# Altium footprint library MyLib.PCBLIB: 64 footprints (part 3 of 4)
Each footprint in its own frame and in the unit in brackets; x right, y up, seen from the top. Pads: shape width x height; smd on the part's side, far side on the other; paste and mask are expansions set on the pad; w line width, h text height; cw(c..) or ccw(c..) is an arc to the next point about the centre after c.
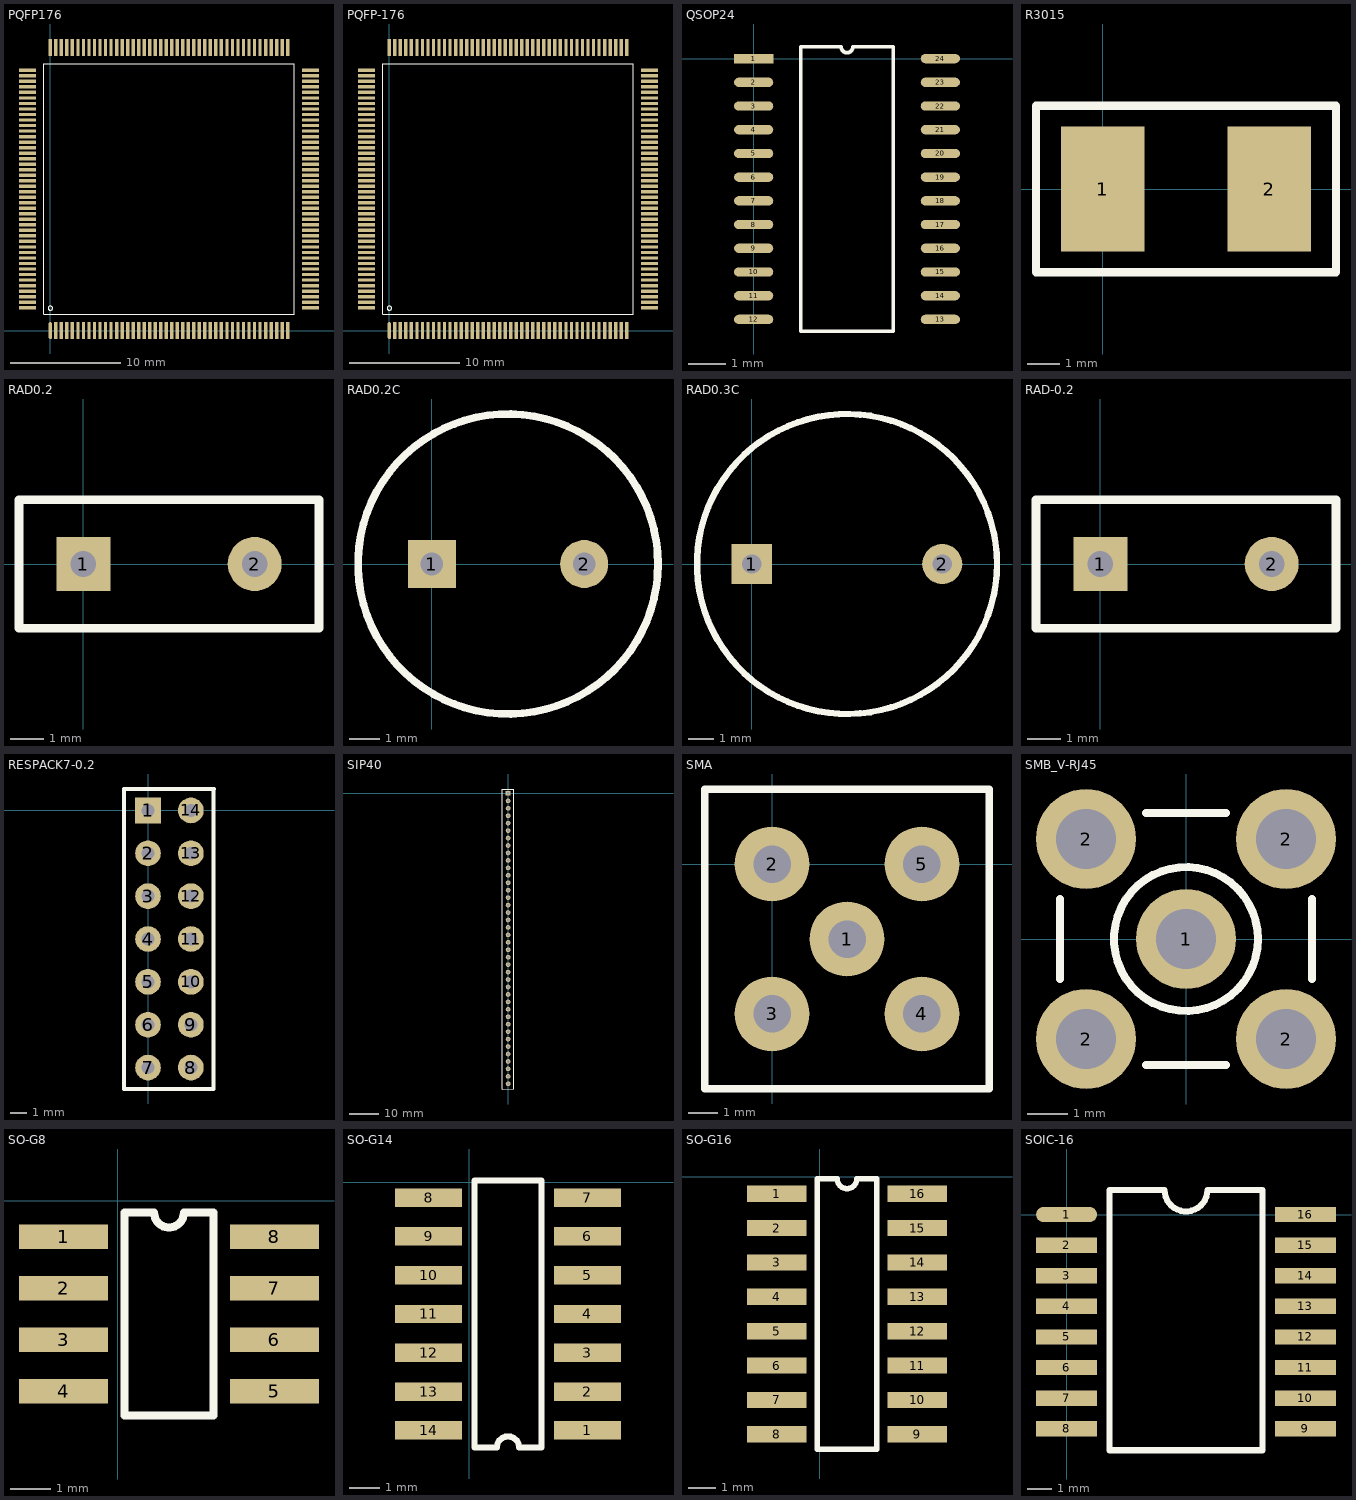
[diagram p2: the footprints below, top view; thin cyan lines are the x and y axes]

## PQFP176 [mil]
pads (176):
  oval 12x60 smd: 1(0,0)
  rect 12x60 smd: 2(19.68,0) 3(39.37,0) 4(59.05,0) 5(78.74,0) 6(98.42,0) 7(118.11,0) 8(137.79,0) 9(157.48,0) 10(177.16,0) 11(196.85,0) 12(216.53,0) 13(236.22,0) 14(255.91,0) 15(275.59,0) 16(295.27,0) 17(314.96,0) 18(334.64,0) 19(354.33,0) 20(374.01,0) 21(393.7,0) 22(413.38,0) 23(433.07,0) 24(452.75,0) 25(472.44,0) 26(492.12,0) 27(511.81,0) 28(531.5,0) 29(551.18,0) 30(570.87,0) 31(590.55,0) 32(610.24,0) 33(629.92,0) 34(649.61,0) 35(669.29,0) 36(688.98,0) 37(708.66,0) 38(728.35,0) 39(748.03,0) 40(767.72,0) 41(787.4,0) 42(807.09,0) 43(826.77,0) 44(846.46,0) 89(846.46,1010) 90(826.77,1010) 91(807.09,1010) 92(787.4,1010) 93(767.72,1010) 94(748.03,1010) 95(728.35,1010) 96(708.66,1010) 97(688.98,1010) 98(669.29,1010) 99(649.61,1010) 100(629.92,1010) 101(610.24,1010) 102(590.55,1010) 103(570.87,1010) 104(551.18,1010) 105(531.5,1010) 106(511.81,1010) 107(492.13,1010) 108(472.44,1010) 109(452.76,1010) 110(433.07,1010) 111(413.39,1010) 112(393.7,1010) 113(374.02,1010) 114(354.33,1010) 115(334.65,1010) 116(314.96,1010) 117(295.28,1010) 118(275.59,1010) 119(255.91,1010) 120(236.22,1010) 121(216.54,1010) 122(196.85,1010) 123(177.17,1010) 124(157.48,1010) 125(137.8,1010) 126(118.11,1010) 127(98.43,1010) 128(78.74,1010) 129(59.06,1010) 130(39.37,1010) 131(19.68,1010) 132(0,1010)
  rect 60x12 smd: 45(928.23,81.77) 46(928.23,101.46) 47(928.23,121.14) 48(928.23,140.83) 49(928.23,160.51) 50(928.23,180.2) 51(928.23,199.88) 52(928.23,219.57) 53(928.23,239.25) 54(928.23,258.94) 55(928.23,278.62) 56(928.23,298.31) 57(928.23,317.99) 58(928.23,337.68) 59(928.23,357.36) 60(928.23,377.05) 61(928.23,396.73) 62(928.23,416.42) 63(928.23,436.1) 64(928.23,455.79) 65(928.23,475.47) 66(928.23,495.16) 67(928.23,514.84) 68(928.23,534.53) 69(928.23,554.21) 70(928.23,573.9) 71(928.23,593.58) 72(928.23,613.27) 73(928.23,632.95) 74(928.23,652.64) 75(928.23,672.32) 76(928.23,692.01) 77(928.23,711.69) 78(928.23,731.38) 79(928.23,751.06) 80(928.23,770.75) 81(928.23,790.43) 82(928.23,810.12) 83(928.23,829.8) 84(928.23,849.49) 85(928.23,869.17) 86(928.23,888.86) 87(928.23,908.54) 88(928.23,928.23) 133(-81.77,928.23) 134(-81.77,908.54) 135(-81.77,888.86) 136(-81.77,869.17) 137(-81.77,849.49) 138(-81.77,829.8) 139(-81.77,810.12) 140(-81.77,790.43) 141(-81.77,770.75) 142(-81.77,751.06) 143(-81.77,731.38) 144(-81.77,711.69) 145(-81.77,692.01) 146(-81.77,672.32) 147(-81.77,652.64) 148(-81.77,632.95) 149(-81.77,613.27) 150(-81.77,593.58) 151(-81.77,573.9) 152(-81.77,554.21) 153(-81.77,534.53) 154(-81.77,514.84) 155(-81.77,495.16) 156(-81.77,475.47) 157(-81.77,455.79) 158(-81.77,436.1) 159(-81.77,416.42) 160(-81.77,396.73) 161(-81.77,377.05) 162(-81.77,357.36) 163(-81.77,337.68) 164(-81.77,317.99) 165(-81.77,298.31) 166(-81.77,278.62) 167(-81.77,258.94) 168(-81.77,239.25) 169(-81.77,219.57) 170(-81.77,199.88) 171(-81.77,180.2) 172(-81.77,160.51) 173(-81.77,140.83) 174(-81.77,121.14) 175(-81.77,101.46) 176(-81.77,81.77)
Top Overlay:
  circle w1.97: c0,80 r7.87
  lines w3.94: -22.72,59.06 869.17,59.06 869.17,950.94 -22.72,950.94 -22.72,59.06

## PQFP-176 [mil]
pads (176):
  oval 12x60 smd: 1(0,0)
  rect 12x60 smd: 2(19.68,0) 3(39.37,0) 4(59.05,0) 5(78.74,0) 6(98.42,0) 7(118.11,0) 8(137.79,0) 9(157.48,0) 10(177.16,0) 11(196.85,0) 12(216.53,0) 13(236.22,0) 14(255.91,0) 15(275.59,0) 16(295.27,0) 17(314.96,0) 18(334.64,0) 19(354.33,0) 20(374.01,0) 21(393.7,0) 22(413.38,0) 23(433.07,0) 24(452.75,0) 25(472.44,0) 26(492.12,0) 27(511.81,0) 28(531.5,0) 29(551.18,0) 30(570.87,0) 31(590.55,0) 32(610.24,0) 33(629.92,0) 34(649.61,0) 35(669.29,0) 36(688.98,0) 37(708.66,0) 38(728.35,0) 39(748.03,0) 40(767.72,0) 41(787.4,0) 42(807.09,0) 43(826.77,0) 44(846.46,0) 89(846.46,1010) 90(826.77,1010) 91(807.09,1010) 92(787.4,1010) 93(767.72,1010) 94(748.03,1010) 95(728.35,1010) 96(708.66,1010) 97(688.98,1010) 98(669.29,1010) 99(649.61,1010) 100(629.92,1010) 101(610.24,1010) 102(590.55,1010) 103(570.87,1010) 104(551.18,1010) 105(531.5,1010) 106(511.81,1010) 107(492.13,1010) 108(472.44,1010) 109(452.76,1010) 110(433.07,1010) 111(413.39,1010) 112(393.7,1010) 113(374.02,1010) 114(354.33,1010) 115(334.65,1010) 116(314.96,1010) 117(295.28,1010) 118(275.59,1010) 119(255.91,1010) 120(236.22,1010) 121(216.54,1010) 122(196.85,1010) 123(177.17,1010) 124(157.48,1010) 125(137.8,1010) 126(118.11,1010) 127(98.43,1010) 128(78.74,1010) 129(59.06,1010) 130(39.37,1010) 131(19.68,1010) 132(0,1010)
  rect 60x12 smd: 45(928.23,81.77) 46(928.23,101.46) 47(928.23,121.14) 48(928.23,140.83) 49(928.23,160.51) 50(928.23,180.2) 51(928.23,199.88) 52(928.23,219.57) 53(928.23,239.25) 54(928.23,258.94) 55(928.23,278.62) 56(928.23,298.31) 57(928.23,317.99) 58(928.23,337.68) 59(928.23,357.36) 60(928.23,377.05) 61(928.23,396.73) 62(928.23,416.42) 63(928.23,436.1) 64(928.23,455.79) 65(928.23,475.47) 66(928.23,495.16) 67(928.23,514.84) 68(928.23,534.53) 69(928.23,554.21) 70(928.23,573.9) 71(928.23,593.58) 72(928.23,613.27) 73(928.23,632.95) 74(928.23,652.64) 75(928.23,672.32) 76(928.23,692.01) 77(928.23,711.69) 78(928.23,731.38) 79(928.23,751.06) 80(928.23,770.75) 81(928.23,790.43) 82(928.23,810.12) 83(928.23,829.8) 84(928.23,849.49) 85(928.23,869.17) 86(928.23,888.86) 87(928.23,908.54) 88(928.23,928.23) 133(-81.77,928.23) 134(-81.77,908.54) 135(-81.77,888.86) 136(-81.77,869.17) 137(-81.77,849.49) 138(-81.77,829.8) 139(-81.77,810.12) 140(-81.77,790.43) 141(-81.77,770.75) 142(-81.77,751.06) 143(-81.77,731.38) 144(-81.77,711.69) 145(-81.77,692.01) 146(-81.77,672.32) 147(-81.77,652.64) 148(-81.77,632.95) 149(-81.77,613.27) 150(-81.77,593.58) 151(-81.77,573.9) 152(-81.77,554.21) 153(-81.77,534.53) 154(-81.77,514.84) 155(-81.77,495.16) 156(-81.77,475.47) 157(-81.77,455.79) 158(-81.77,436.1) 159(-81.77,416.42) 160(-81.77,396.73) 161(-81.77,377.05) 162(-81.77,357.36) 163(-81.77,337.68) 164(-81.77,317.99) 165(-81.77,298.31) 166(-81.77,278.62) 167(-81.77,258.94) 168(-81.77,239.25) 169(-81.77,219.57) 170(-81.77,199.88) 171(-81.77,180.2) 172(-81.77,160.51) 173(-81.77,140.83) 174(-81.77,121.14) 175(-81.77,101.46) 176(-81.77,81.77)
Top Overlay:
  circle w1.97: c0,80 r7.87
  lines w3.94: -22.72,59.06 869.17,59.06 869.17,950.94 -22.72,950.94 -22.72,59.06

## QSOP24 [mm]
pads (24):
  rect 1.05x0.25 smd: 1(0,0)
  oval 1.05x0.25 smd: 2(0,-0.635) 3(0,-1.27) 4(0,-1.905) 5(0,-2.54) 6(0,-3.175) 7(0,-3.81) 8(0,-4.445) 9(0,-5.08) 10(0,-5.715) 11(0,-6.35) 12(0,-6.985) 13(5,-6.985) 14(5,-6.35) 15(5,-5.715) 16(5,-5.08) 17(5,-4.445) 18(5,-3.81) 19(5,-3.175) 20(5,-2.54) 21(5,-1.905) 22(5,-1.27) 23(5,-0.635) 24(5,0)
Top Overlay:
  lines w0.1: 1.26,-7.302 1.26,0.318 2.341,0.318 ccw(c2.5,0.318) 2.659,0.317 3.74,0.318 3.74,-7.302 1.26,-7.302

## R3015 [mil]
pads (2):
  rect 100x150 smd: 1(0,0) 2(200,0)
Top Overlay:
  lines w10: -80,-100 -80,0 -80,100 140,100 280,100 280,-100 140,-100 -80,-100

## RAD0.2 [mil]
pads (2):
  rect 63x63 hole 30: 1(0,0)
  round 63 hole 30: 2(200,0)
Top Overlay:
  lines w10: -75,-75 -75,75 275,75 275,-75 -75,-75

## RAD0.2C [mil]
pads (2):
  rect 63x63 hole 30: 1(0,0)
  round 63 hole 30: 2(200,0)
Top Overlay:
  circle w10: c100,0 r196.85

## RAD0.3C [mil]
pads (2):
  rect 63x63 hole 30: 1(0,0)
  round 63 hole 30: 2(300,0)
Top Overlay:
  circle w10: c150,0 r236.22

## RAD-0.2 [mil]
pads (2):
  rect 63x63 hole 30: 1(0,0)
  round 63 hole 30: 2(200,0)
Top Overlay:
  lines w10: -75,-75 275,-75 275,75 -75,75 -75,-75

## RESPACK7-0.2 [mil]
pads (14):
  rect 60x60 hole 30: 1(0,0)
  round 60 hole 30: 2(0,-100) 3(0,-200) 4(0,-300) 5(0,-400) 6(0,-500) 7(0,-600) 8(100,-600) 9(100,-500) 10(100,-400) 11(100,-300) 12(100,-200) 13(100,-100) 14(100,0)
Top Overlay:
  lines w10: 25,50 65,50 ; 153,50 153,-650 -56,-650 -56,50 154,50

## SIP40 [mil]
pads (40):
  rect 63x63 hole 35: 1(0,0)
  round 63 hole 35: 2(0,-100) 3(0,-200) 4(0,-300) 5(0,-400) 6(0,-500) 7(0,-600) 8(0,-700) 9(0,-800) 10(0,-900) 11(0,-1000) 12(0,-1100) 13(0,-1200) 14(0,-1300) 15(0,-1400) 16(0,-1500) 17(0,-1600) 18(0,-1700) 19(0,-1800) 20(0,-1900) 21(0,-2000) 22(0,-2100) 23(0,-2200) 24(0,-2300) 25(0,-2400) 26(0,-2500) 27(0,-2600) 28(0,-2700) 29(0,-2800) 30(0,-2900) 31(0,-3000) 32(0,-3100) 33(0,-3200) 34(0,-3300) 35(0,-3400) 36(0,-3500) 37(0,-3600) 38(0,-3700) 39(0,-3800) 40(0,-3900)
Top Overlay:
  lines w10: -76.5,-3970 -76.5,59 74,59 74,-3969 -76.5,-3970

## SMA [mil]
pads (5):
  round 100 hole 50: 1(100,-100) 2(0,0) 3(0,-200) 4(200,-200) 5(200,0)
Top Overlay:
  lines w10: 150,100 290,100 290,-300 -90,-300 -90,100 155,100

## SMB_V-RJ45 [mm]
pads (5):
  round 2.5 hole 1.5: 1(0,0) 2(-2.5,-2.5) 2(-2.5,2.5) 2(2.5,-2.5) 2(2.5,2.5)
Top Overlay:
  circle w0.2: c0,0 r1.8
  lines w0.2: -3.15,-1 -3.15,1 ; -1,-3.15 1,-3.15 ; -1,3.15 1,3.15 ; 3.15,-1 3.15,1
Mechanical 1:
  circle w0.025: c0,0 r0.2
  circle w0.025: c0,0 r1.05
  circle w0.025: c0,0 r1.8

## SO-G8 [mm]
pads (8):
  rect 2.2x0.6 smd: 1(-1.33,-0.889) 2(-1.33,-2.159) 3(-1.33,-3.429) 4(-1.33,-4.699) 5(3.87,-4.699) 6(3.87,-3.429) 7(3.87,-2.159) 8(3.87,-0.889)
Top Overlay:
  lines w0.2: 0.903,-0.294 0.17,-0.294 0.17,-5.294 2.37,-5.294 2.37,-0.294 1.637,-0.294 cw(c1.27,-0.294) 0.903,-0.294

## SO-G14 [mm]
pads (14):
  rect 2.2x0.6 smd: 1(3.87,-8.128) 2(3.87,-6.858) 3(3.87,-5.588) 4(3.87,-4.318) 5(3.87,-3.048) 6(3.87,-1.778) 7(3.87,-0.508) 8(-1.33,-0.508) 9(-1.33,-1.778) 10(-1.33,-3.048) 11(-1.33,-4.318) 12(-1.33,-5.588) 13(-1.33,-6.858) 14(-1.33,-8.128)
Top Overlay:
  lines w0.2: 0.17,-8.693 0.903,-8.693 cw(c1.27,-8.693) 1.637,-8.693 2.37,-8.693 2.37,0.057 0.17,0.057 0.17,-8.693

## SO-G16 [mm]
pads (16):
  rect 2.2x0.6 smd: 1(-1.584,-0.635) 2(-1.584,-1.905) 3(-1.584,-3.175) 4(-1.584,-4.445) 5(-1.584,-5.715) 6(-1.584,-6.985) 7(-1.584,-8.255) 8(-1.584,-9.525) 9(3.616,-9.525) 10(3.616,-8.255) 11(3.616,-6.985) 12(3.616,-5.715) 13(3.616,-4.445) 14(3.616,-3.175) 15(3.616,-1.905) 16(3.616,-0.635)
Top Overlay:
  lines w0.2: -0.084,-10.08 2.116,-10.08 2.116,-0.08 1.383,-0.08 cw(c1.016,-0.08) 0.649,-0.08 -0.084,-0.08 -0.084,-10.08

## SOIC-16 [mil]
pads (16):
  oval 100x25 smd: 1(0,0)
  rect 100x25 smd: 2(0,-50) 3(0,-100) 4(0,-150) 5(0,-200) 6(0,-250) 7(0,-300) 8(0,-350) 9(390,-350) 10(390,-300) 11(390,-250) 12(390,-200) 13(390,-150) 14(390,-100) 15(390,-50) 16(390,0)
Top Overlay:
  lines w10: 159,40 70,40 70,-385 320,-385 320,40 ; 160,40 ccw(c195,40) 230,40 319,40